# Altium footprint library Resistores_PCBLIB.PcbLib: 27 footprints (part 1 of 2)
Each footprint in its own frame and in the unit in brackets; x right, y up, seen from the top. Pads: shape width x height; smd on the part's side, far side on the other; paste and mask are expansions set on the pad; w line width, h text height; cw(c..) or ccw(c..) is an arc to the next point about the centre after c.
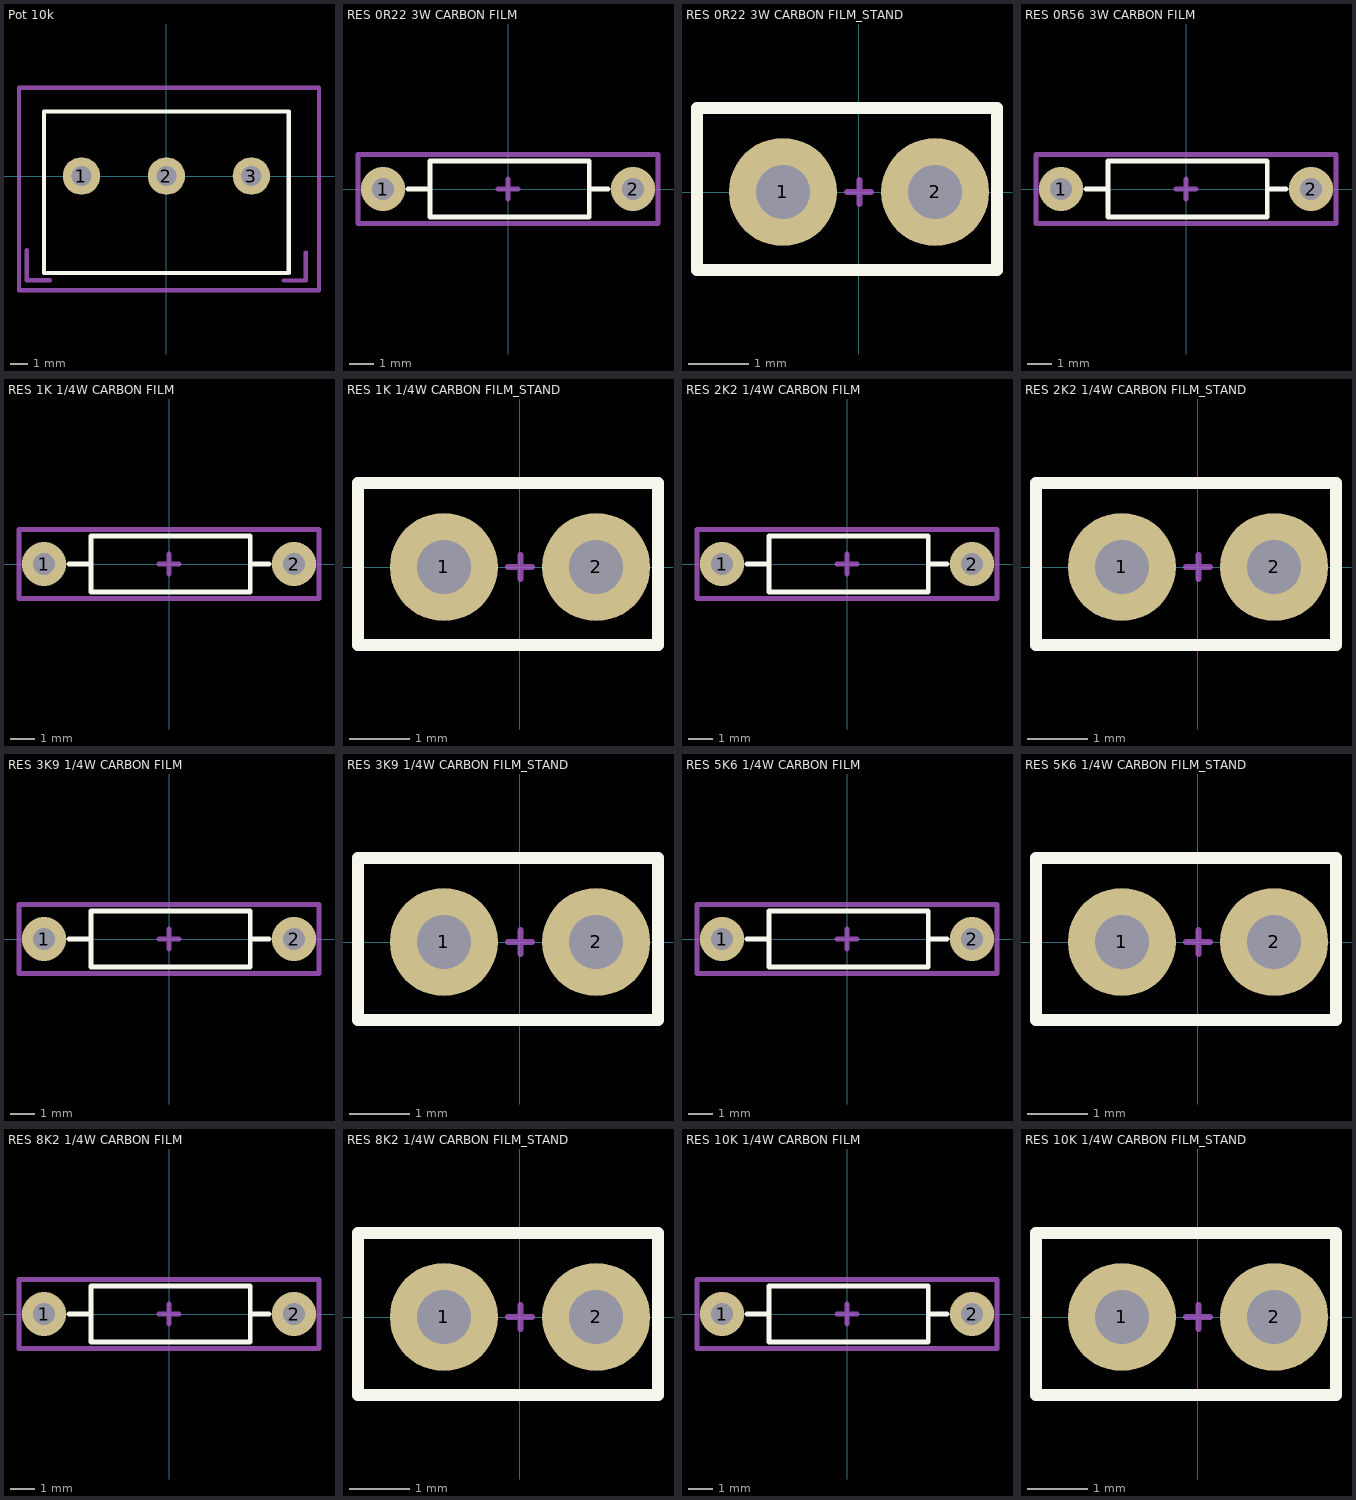
[diagram p0: the footprints below, top view; thin cyan lines are the x and y axes]

## Pot 10k [mm]
pads (3):
  round 2.2 hole 1.2: 1(-5,0) 2(0,0) 3(5,0)
Top Overlay:
  lines w0.254: -7.2,-5.7 7.2,-5.7 7.2,3.8 -7.2,3.8 -7.2,-5.7
Mechanical 13:
  lines w0.254: -8.225,-4.375 -8.225,-6.125 -6.85,-6.125 ; 6.9,-6.15 8.2,-6.15 8.2,-4.5
Mechanical 15:
  lines w0.254: -8.675,-6.725 8.925,-6.725 8.975,-6.725 8.975,5.2 -8.675,5.2 -8.675,-6.725
3D body "Potentiometer10K.STEP": height 21.17, standoff -3.68, extent -8.145,-5.55 8.195,23.49

## RES 0R22 3W CARBON FILM [mm]
pads (2):
  round 1.8 hole 0.9: 1(-5.08,0) 2(5.08,0)
Top Overlay:
  lines w0.2: -4.064,0 -3.175,0 ; 3.302,0 4.064,0 ; -3.175,-1.143 3.302,-1.143 3.302,1.143 -3.175,1.143 -3.175,-1.143
Mechanical 15:
  lines w0.2: -0.4,0 0.4,0 ; 0,-0.4 0,0.4 ; -6.096,-1.4 -6.096,1.4 6.096,1.4 6.096,-1.4 -6.096,-1.4
Mechanical 29:
  text ".Designator" at -5.9,1.8 h0.5
  text "1" at -3.937,-1.016 h0.5
3D body "RES_0R22_3W_CARBON_FILM.STEP": height 2.77, standoff -2.52, extent -5.473,-1.27 5.474,1.27

## RES 0R22 3W CARBON FILM_STAND [mm]
pads (2):
  round 1.8 hole 0.9: 1(-1.27,0) 2(1.27,0)
Top Overlay:
  lines w0.2: -2.7,-1.3 2.3,-1.3 2.3,1.4 -2.7,1.4 -2.7,-1.3
Mechanical 15:
  lines w0.1: -0.2,0 0.2,0 ; 0.01,-0.2 0.01,0.2
  lines w0.2: -2.7,-1.3 -2.7,1.4 2.3,1.4 2.3,-1.3 -2.7,-1.3
Mechanical 29:
  text ".Designator" at -2.4,1.8 h0.5
  text "1" at -2.4,-1 h0.5
3D body "RES_0R22_3W_CARBON_FILM_STAND.STEP": height 8.72, standoff -1.13, extent -2.562,-1.1 1.562,1.44

## RES 0R56 3W CARBON FILM [mm]
pads (2):
  round 1.8 hole 0.9: 1(-5.08,0) 2(5.08,0)
Top Overlay:
  lines w0.2: -4.064,0 -3.175,0 ; 3.302,0 4.064,0 ; -3.175,-1.143 -3.175,1.143 3.302,1.143 3.302,-1.143 -3.175,-1.143
Mechanical 15:
  lines w0.2: -0.4,0 0.4,0 ; 0,-0.4 0,0.4 ; -6.096,-1.4 6.096,-1.4 6.096,1.4 -6.096,1.4 -6.096,-1.4
Mechanical 29:
  text "1" at -3.937,-1.016 h0.5
  text ".Designator" at -5.9,1.8 h0.5
3D body "RES_0R56_3W_CARBON_FILM.STEP": height 2.77, standoff -2.52, extent -5.473,-1.17 5.474,1.37

## RES 1K 1/4W CARBON FILM [mm]
pads (2):
  round 1.8 hole 0.9: 1(-5.08,0) 2(5.08,0)
Top Overlay:
  lines w0.2: -4.064,0 -3.175,0 ; 3.302,0 4.064,0 ; -3.175,-1.143 3.302,-1.143 3.302,1.143 -3.175,1.143 -3.175,-1.143
Mechanical 15:
  lines w0.2: -0.4,0 0.4,0 ; 0,-0.4 0,0.4 ; -6.096,-1.4 -6.096,1.4 6.096,1.4 6.096,-1.4 -6.096,-1.4
Mechanical 29:
  text ".Designator" at -5.9,1.8 h0.5
  text "1" at -3.937,-1.016 h0.5
3D body "RES 1K .25W CARBON FILM.STEP": height 3.27, standoff -2.02, extent -5.473,-1.27 5.474,1.27

## RES 1K 1/4W CARBON FILM_STAND [mm]
pads (2):
  round 1.8 hole 0.9: 1(-1.27,0) 2(1.27,0)
Top Overlay:
  lines w0.2: -2.7,-1.3 2.3,-1.3 2.3,1.4 -2.7,1.4 -2.7,-1.3
Mechanical 15:
  lines w0.1: -0.2,0 0.2,0 ; 0.01,-0.2 0.01,0.2
  lines w0.2: -2.7,-1.3 -2.7,1.4 2.3,1.4 2.3,-1.3 -2.7,-1.3
Mechanical 29:
  text ".Designator" at -2.4,1.8 h0.5
  text "1" at -2.4,-1 h0.5
3D body "RES 1K .25W CARBON FILM_STAND.STEP": height 7.82, standoff -2.03, extent -2.562,-1.2 1.562,1.34

## RES 2K2 1/4W CARBON FILM [mm]
pads (2):
  round 1.8 hole 0.9: 1(-5.08,0) 2(5.08,0)
Top Overlay:
  lines w0.2: -4.064,0 -3.175,0 ; 3.302,0 4.064,0 ; -3.175,-1.143 -3.175,1.143 3.302,1.143 3.302,-1.143 -3.175,-1.143
Mechanical 15:
  lines w0.2: -0.4,0 0.4,0 ; 0,-0.4 0,0.4 ; -6.096,-1.4 6.096,-1.4 6.096,1.4 -6.096,1.4 -6.096,-1.4
Mechanical 29:
  text "1" at -3.937,-1.016 h0.5
  text ".Designator" at -5.9,1.8 h0.5
3D body "RES 2K2 .25W CARBON FILM.STEP": height 3.27, standoff -2.02, extent -5.473,-1.27 5.474,1.27

## RES 2K2 1/4W CARBON FILM_STAND [mm]
pads (2):
  round 1.8 hole 0.9: 1(-1.27,0) 2(1.27,0)
Top Overlay:
  lines w0.2: -2.7,-1.3 -2.7,1.4 2.3,1.4 2.3,-1.3 -2.7,-1.3
Mechanical 15:
  lines w0.1: -0.2,0 0.2,0 ; 0.01,-0.2 0.01,0.2
  lines w0.2: -2.7,-1.3 2.3,-1.3 2.3,1.4 -2.7,1.4 -2.7,-1.3
Mechanical 29:
  text "1" at -2.4,-1 h0.5
  text ".Designator" at -2.4,1.8 h0.5
3D body "RES 2K2 .25W CARBON FILM_STAND.STEP": height 7.82, standoff -2.03, extent -2.562,-1.2 1.562,1.34

## RES 3K9 1/4W CARBON FILM [mm]
pads (2):
  round 1.8 hole 0.9: 1(-5.08,0) 2(5.08,0)
Top Overlay:
  lines w0.2: -4.064,0 -3.175,0 ; 3.302,0 4.064,0 ; -3.175,-1.143 -3.175,1.143 3.302,1.143 3.302,-1.143 -3.175,-1.143
Mechanical 15:
  lines w0.2: -0.4,0 0.4,0 ; 0,-0.4 0,0.4 ; -6.096,-1.4 6.096,-1.4 6.096,1.4 -6.096,1.4 -6.096,-1.4
Mechanical 29:
  text "1" at -3.937,-1.016 h0.5
  text ".Designator" at -5.9,1.8 h0.5
3D body "RES 3K9 .25W CARBON FILM.STEP": height 3.27, standoff -2.02, extent -5.473,-1.27 5.474,1.27

## RES 3K9 1/4W CARBON FILM_STAND [mm]
pads (2):
  round 1.8 hole 0.9: 1(-1.27,0) 2(1.27,0)
Top Overlay:
  lines w0.2: -2.7,-1.3 2.3,-1.3 2.3,1.4 -2.7,1.4 -2.7,-1.3
Mechanical 15:
  lines w0.1: -0.2,0 0.2,0 ; 0.01,-0.2 0.01,0.2
  lines w0.2: -2.7,-1.3 -2.7,1.4 2.3,1.4 2.3,-1.3 -2.7,-1.3
Mechanical 29:
  text ".Designator" at -2.4,1.8 h0.5
  text "1" at -2.4,-1 h0.5
3D body "RES 3K9 .25W CARBON FILM_STAND.STEP": height 7.82, standoff -2.03, extent -2.562,-1.2 1.562,1.34

## RES 5K6 1/4W CARBON FILM [mm]
pads (2):
  round 1.8 hole 0.9: 1(-5.08,0) 2(5.08,0)
Top Overlay:
  lines w0.2: -4.064,0 -3.175,0 ; 3.302,0 4.064,0 ; -3.175,-1.143 -3.175,1.143 3.302,1.143 3.302,-1.143 -3.175,-1.143
Mechanical 15:
  lines w0.2: -0.4,0 0.4,0 ; 0,-0.4 0,0.4 ; -6.096,-1.4 6.096,-1.4 6.096,1.4 -6.096,1.4 -6.096,-1.4
Mechanical 29:
  text "1" at -3.937,-1.016 h0.5
  text ".Designator" at -5.9,1.8 h0.5
3D body "RES 5K6 .25W CARBON FILM.STEP": height 3.27, standoff -2.02, extent -5.473,-1.27 5.474,1.27

## RES 5K6 1/4W CARBON FILM_STAND [mm]
pads (2):
  round 1.8 hole 0.9: 1(-1.27,0) 2(1.27,0)
Top Overlay:
  lines w0.2: -2.7,-1.3 -2.7,1.4 2.3,1.4 2.3,-1.3 -2.7,-1.3
Mechanical 15:
  lines w0.1: -0.2,0 0.2,0 ; 0.01,-0.2 0.01,0.2
  lines w0.2: -2.7,-1.3 2.3,-1.3 2.3,1.4 -2.7,1.4 -2.7,-1.3
Mechanical 29:
  text "1" at -2.4,-1 h0.5
  text ".Designator" at -2.4,1.8 h0.5
3D body "RES 5K6 .25W CARBON FILM_STAND.STEP": height 7.82, standoff -2.03, extent -2.562,-1.2 1.562,1.34

## RES 8K2 1/4W CARBON FILM [mm]
pads (2):
  round 1.8 hole 0.9: 1(-5.08,0) 2(5.08,0)
Top Overlay:
  lines w0.2: -4.064,0 -3.175,0 ; 3.302,0 4.064,0 ; -3.175,-1.143 -3.175,1.143 3.302,1.143 3.302,-1.143 -3.175,-1.143
Mechanical 15:
  lines w0.2: -0.4,0 0.4,0 ; 0,-0.4 0,0.4 ; -6.096,-1.4 6.096,-1.4 6.096,1.4 -6.096,1.4 -6.096,-1.4
Mechanical 29:
  text "1" at -3.937,-1.016 h0.5
  text ".Designator" at -5.9,1.8 h0.5
3D body "RES 8K2 .25W CARBON FILM.STEP": height 3.27, standoff -2.02, extent -5.473,-1.27 5.474,1.27

## RES 8K2 1/4W CARBON FILM_STAND [mm]
pads (2):
  round 1.8 hole 0.9: 1(-1.27,0) 2(1.27,0)
Top Overlay:
  lines w0.2: -2.7,-1.3 2.3,-1.3 2.3,1.4 -2.7,1.4 -2.7,-1.3
Mechanical 15:
  lines w0.1: -0.2,0 0.2,0 ; 0.01,-0.2 0.01,0.2
  lines w0.2: -2.7,-1.3 -2.7,1.4 2.3,1.4 2.3,-1.3 -2.7,-1.3
Mechanical 29:
  text ".Designator" at -2.4,1.8 h0.5
  text "1" at -2.4,-1 h0.5
3D body "RES 8K2 .25W CARBON FILM_STAND.STEP": height 7.82, standoff -2.03, extent -2.562,-1.2 1.562,1.34

## RES 10K 1/4W CARBON FILM [mm]
pads (2):
  round 1.8 hole 0.9: 1(-5.08,0) 2(5.08,0)
Top Overlay:
  lines w0.2: -4.064,0 -3.175,0 ; 3.302,0 4.064,0 ; -3.175,-1.143 -3.175,1.143 3.302,1.143 3.302,-1.143 -3.175,-1.143
Mechanical 15:
  lines w0.2: -0.4,0 0.4,0 ; 0,-0.4 0,0.4 ; -6.096,-1.4 6.096,-1.4 6.096,1.4 -6.096,1.4 -6.096,-1.4
Mechanical 29:
  text "1" at -3.937,-1.016 h0.5
  text ".Designator" at -5.9,1.8 h0.5
3D body "RES 10K .25W CARBON FILM.STEP": height 3.27, standoff -1.27, extent -5.473,-1.27 5.474,1.27

## RES 10K 1/4W CARBON FILM_STAND [mm]
pads (2):
  round 1.8 hole 0.9: 1(-1.27,0) 2(1.27,0)
Top Overlay:
  lines w0.2: -2.7,-1.3 -2.7,1.4 2.3,1.4 2.3,-1.3 -2.7,-1.3
Mechanical 15:
  lines w0.1: -0.2,0 0.2,0 ; 0.01,-0.2 0.01,0.2
  lines w0.2: -2.7,-1.3 2.3,-1.3 2.3,1.4 -2.7,1.4 -2.7,-1.3
Mechanical 29:
  text "1" at -2.4,-1 h0.5
  text ".Designator" at -2.4,1.8 h0.5
3D body "RES 10K .25W CARBON FILM_STAND.STEP": height 7.82, standoff -2.03, extent -2.562,-1.2 1.562,1.34